# Altium schematic symbol library B9_HashBoard.SchLib: 74 symbols
Pins are listed as number, name and electrical type; pins without a type are passive.

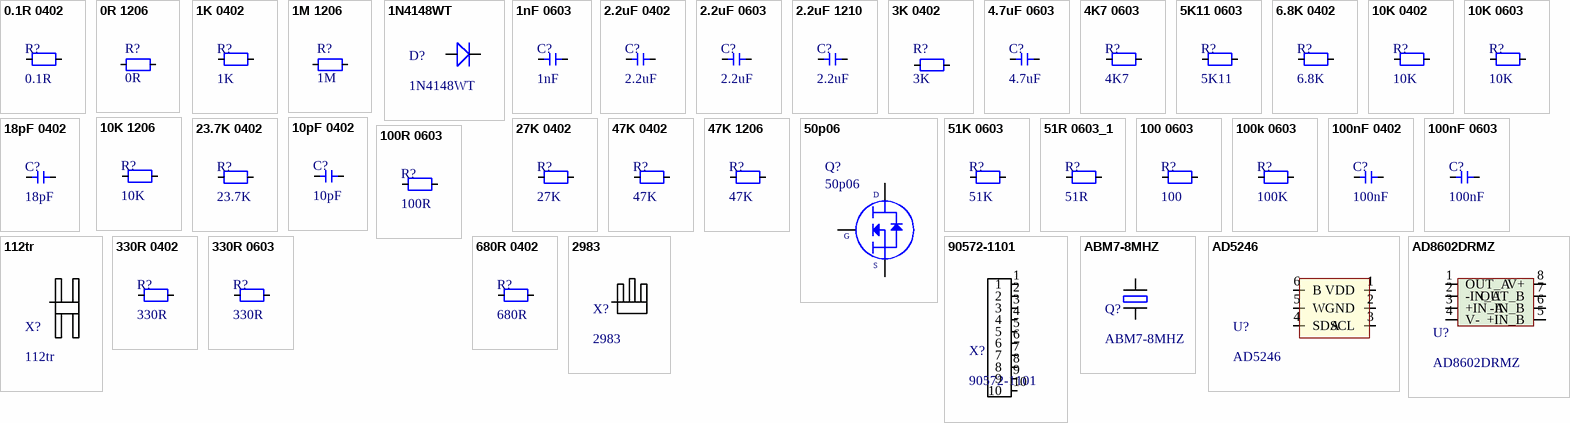
[diagram p0: symbols 0.1R 0402 to AD8602DRMZ]

## 0.1R 0402
designator R?, comment 0.1R
footprint R-0402R (resistor 0402 reflow soldering)
pins: 1, 2

## 0R 1206
designator R?, comment 0R
footprint R-0402R (resistor 0402 reflow soldering)
pins: 1, 2

## 1K 0402
designator R?, comment 1K
footprint R-0402R (resistor 0402 reflow soldering)
pins: 1, 2

## 1M 1206
designator R?, comment 1M
footprint R-0402R (resistor 0402 reflow soldering)
pins: 1, 2

## 1N4148WT
designator D?
footprint 1n4148
pins: 1, 2

## 1nF 0603
designator C?, comment 1nF
footprint C-0603W (capacitor 0603 wave soldering)
pins: 1, 2

## 2.2uF 0402
designator C?, comment 2.2uF
footprint C-0402R (Capacitor 0402 reflow soldering)
pins: 1, 2

## 2.2uF 0603
designator C?, comment 2.2uF
footprint C-0603W (capacitor 0603 wave soldering)
pins: 1, 2

## 2.2uF 1210
designator C?, comment 2.2uF
footprint R-1210R (resistor 1210 reflow soldering)
pins: 1, 2

## 3K 0402
designator R?, comment 3K
footprint R-0402R (resistor 0402 reflow soldering)
pins: 1, 2

## 4.7uF 0603
designator C?, comment 4.7uF
footprint C-0603W (capacitor 0603 wave soldering)
pins: 1, 2

## 4K7 0603
designator R?, comment 4K7
footprint R-0603W (resistor 0603 wave soldering)
pins: 1, 2

## 5K11 0603
designator R?, comment 5K11
footprint R-0603W (resistor 0603 wave soldering)
pins: 1, 2

## 6.8K 0402
designator R?, comment 6.8K
footprint R-0402R (resistor 0402 reflow soldering)
pins: 1, 2

## 10K 0402
designator R?, comment 10K
footprint R-0402R (resistor 0402 reflow soldering)
pins: 1, 2

## 10K 0603
designator R?, comment 10K
footprint R-0603W (resistor 0603 wave soldering)
pins: 1, 2

## 10K 1206
designator R?, comment 10K
footprint R-1206W (resistor 1206 wave soldering)
pins: 1, 2

## 10pF 0402
designator C?, comment 10pF
footprint C-0402R (Capacitor 0402 reflow soldering)
pins: 1, 2

## 18pF 0402
designator C?, comment 18pF
footprint C-0402R (Capacitor 0402 reflow soldering)
pins: 1, 2

## 23.7K 0402
designator R?, comment 23.7K
footprint R-0402R (resistor 0402 reflow soldering)
pins: 1, 2

## 27K 0402
designator R?, comment 27K
footprint R-0402R (resistor 0402 reflow soldering)
pins: 1, 2

## 47K 0402
designator R?, comment 47K
footprint R-0402R (resistor 0402 reflow soldering)
pins: 1, 2

## 47K 1206
designator R?, comment 47K
footprint R-1206W (resistor 1206 wave soldering)
pins: 1, 2

## 50p06
designator Q?
Manufacturer: Infineon; Manufacturer Part Number: IRF3205STRLPBF; Drain to Source Voltage (Vdss): 55V; Continuous Drain Current (ID): 110A; Rds On Max: 8mR; Input Capacitance: 3.247nF; Max Power Dissipation: 200W; Turn-Off Delay Time: 50ns; Turn-On Delay Time: 14ns; Gate to Source Voltage (Vgs): 20V; Threshold Voltage: 4V; Supplier 1: Digi-Key; RoHS: Yes; Stock 1: 3281; Pricing 1: 1 = 1,84000, 10 = 1,66600, 100 = 1,33840 (USD); Mount: Surface Mount; Case/Package: D2PAK; Number of Pins: 3; Min Operating Temperature: -55°C; Max Operating Temperature: 175°C; Packaging: Cut Tape; Power Dissipation: 200W; Drain to Source Resistance: 8mR; Drain to Source Breakdown Voltage: 55V; Length: 0.42inch; Height: 0.19inch; Width: 0.38inch; REACH SVHC: No SVHC; Lead Free: Lead Free; ComponentLink1URL: https://www.alliedelec.com/m/d/b8827ca43655240244f0cc5c2198e6b1.pdf?src-supplier=Allied+Electronics; ComponentLink1Description: https://www.alliedelec.com/m/d/b8827ca43655240244f0cc5c2198e6b1.pdf?src-supplier=Allied+Electronics; ComponentLink2URL: https://www.infineon.com/dgdl/irf3205spbf.pdf?fileId=5546d462533600a4015355defac9190c&src-supplier=Digi-Key; ComponentLink2Description: https://www.infineon.com/dgdl/irf3205spbf.pdf?fileId=5546d462533600a4015355defac9190c&src-supplier=Digi-Key; ComponentLink3URL: http://www.infineon.com/dgdl/irf3205spbf.pdf?fileId=5546d462533600a4015355defac9190c&src-supplier=Digi-Key; ComponentLink3Description: http://www.infineon.com/dgdl/irf3205spbf.pdf?fileId=5546d462533600a4015355defac9190c&src-supplier=Digi-Key; ComponentLink4URL: http://www.farnell.com/datasheets/1884183.pdf?src-supplier=Element14; ComponentLink4Description: http://www.farnell.com/datasheets/1884183.pdf?src-supplier=Element14; Supplier Part Number 1: IRF3205STRLPBFCT-ND
footprint DPAK_TO263 (D2-PAK, 3-Pads, Body 7.93x8.70mm (max), IPC Medium Density)
pins: 1, 2, 3
text: D; G; S

## 51K 0603
designator R?, comment 51K
footprint R-0603W (resistor 0603 wave soldering)
pins: 1, 2

## 51R 0603_1
designator R?, comment 51R
footprint R-0603W (resistor 0603 wave soldering)
pins: 1, 2

## 100 0603
designator R?, comment 100
footprint R-0603W (resistor 0603 wave soldering)
pins: 1, 2

## 100k 0603
designator R?, comment 100K
footprint R-0603W (resistor 0603 wave soldering)
pins: 1, 2

## 100nF 0402
designator C?, comment 100nF
footprint C-0402R (Capacitor 0402 reflow soldering)
pins: 1, 2

## 100nF 0603
designator C?, comment 100nF
footprint C-0603W (capacitor 0603 wave soldering)
pins: 1, 2

## 100R 0603
designator R?, comment 100R
footprint R-0603W (resistor 0603 wave soldering)
pins: 1, 2

## 112tr
designator X?
footprint 112tr
pins: 1

## 330R 0402
designator R?, comment 330R
footprint R-0402R (resistor 0402 reflow soldering)
pins: 1, 2

## 330R 0603
designator R?, comment 330R
footprint R-0603W (resistor 0603 wave soldering)
pins: 1, 2

## 680R 0402
designator R?, comment 680R
footprint R-0402R (resistor 0402 reflow soldering)
pins: 1, 2

## 2983
designator X?
footprint 2983
pins: 1

## 90572-1101
designator X?
footprint idc20
pins: 1, 2, 3, 4, 5, 6, 7, 8, 9, 10

## ABM7-8MHZ
designator Q?
footprint abm-8mhz
pins: 1, 2

## AD5246
designator U?
footprint ad5246
pins: 1 VDD, 2 GND, 3 SCL, 4 SDA, 5 W, 6 B

## AD8602DRMZ
designator U?
footprint ad860 (SOP, 8-Leads, Body 3x3mm, Pitch 0.65mm, IPC High Density)
pins: 1 OUT_A, 2 -IN_A, 3 +IN_A, 4 V-, 5 +IN_B, 6 -IN_B, 7 OUT_B, 8 V+

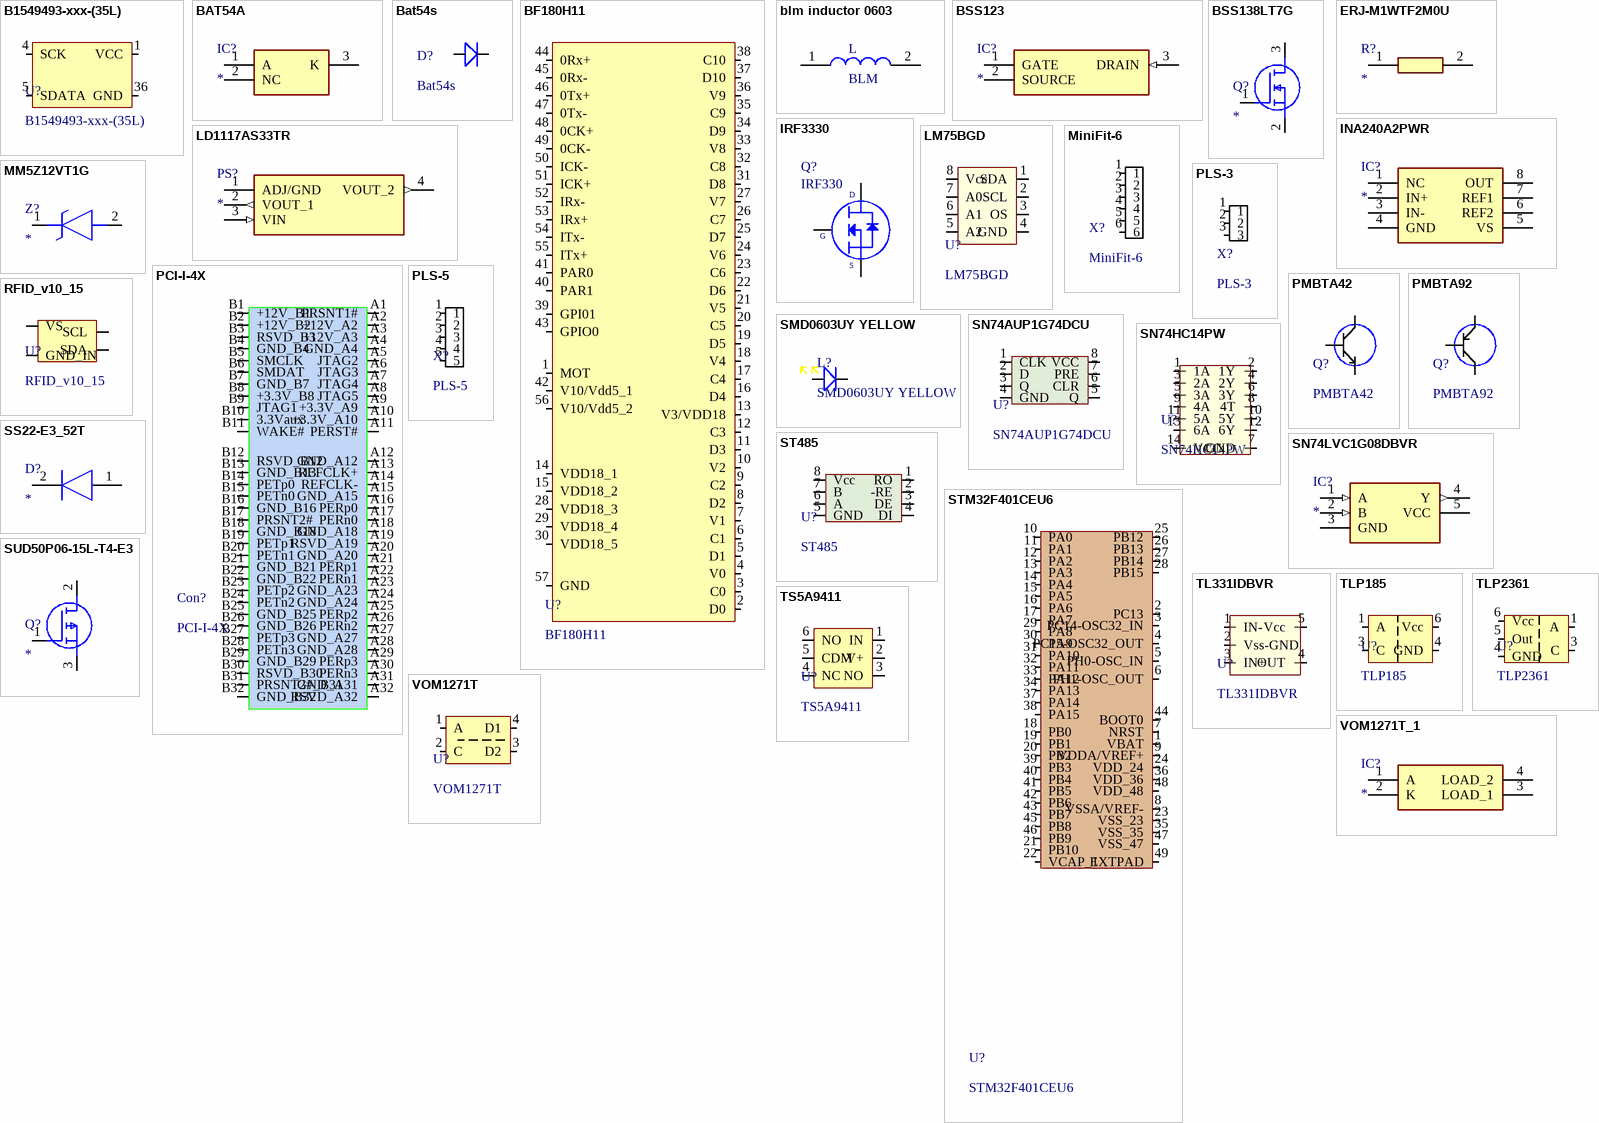
[diagram p1: symbols B1549493-xxx-(35L) to VOM1271T_1]

## B1549493-xxx-(35L)
designator U?
footprint Bıtfury_Clarke_B1549493 (PQFN, 36-Leads, Body 6,00x6,00mm, Pitch 0,50mm, Thermal Pad 3,08x3,08mm, IPC Medium Density)
pins: 1 VCC, 4 SCK, 5 SDATA, 36 GND

## BAT54A
designator IC?
Integrated Circuit; Manufacturer_Name: STMicroelectronics; Manufacturer_Part_Number: BAT54A; Datasheet Link: http://www.st.com/web/en/resource/technical/document/datasheet/CD00001322.pdf; Height: 1.5mm
footprint bat54a
pins: 1 A, 2 NC, 3 K

## Bat54s
designator D?
footprint bat54s
pins: 1, 2

## BF180H11
designator U?
footprint BF180H16 (PQFN, 56-Leads, Body 7,00x7,00mm, Pitch 0,40mm, Thermal Pad 4,58x4,58mm, IPC Medium Density)
pins: 1 MOT, 2 D0, 3 C0, 4 V0, 5 D1, 6 C1, 7 V1, 8 D2, 9 C2, 10 V2, 11 D3, 12 C3, 13 V3/VDD18, 14 VDD18_1, 15 VDD18_2, 16 D4, 17 C4, 18 V4, 19 D5, 20 C5, 21 V5, 22 D6, 23 C6, 24 V6, 25 D7, 26 C7, 27 V7, 28 VDD18_3, 29 VDD18_4, 30 VDD18_5, 31 D8, 32 C8, 33 V8, 34 D9, 35 C9, 36 V9, 37 D10, 38 C10, 39 GPI01, 40 PAR1, 41 PAR0, 42 V10/Vdd5_1, 43 GPIO0, 44 0Rx+, 45 0Rx-, 46 0Tx+, 47 0Tx-, 48 0CK+, 49 0CK-, 50 ICK-, 51 ICK+, 52 IRx-, 53 IRx+, 54 ITx-, 55 ITx+, 56 V10/Vdd5_2, 57 GND

## blm inductor 0603
designator L, comment BLM
footprint R-0603W (resistor 0603 wave soldering)
pins: 1, 2

## BSS123
designator IC?
Integrated Circuit; Manufacturer_Name: Nexperia; Manufacturer_Part_Number: BSS123; Datasheet Link: http://docs-emea.rs-online.com/webdocs/1270/0900766b81270fbb.pdf; Height: 1.1mm; Mouser Part Number: N/A; Mouser Price/Stock: https://www.mouser.com/Search/Refine.aspx?Keyword=N%2FA
footprint bss123
pins: 1 GATE, 2 SOURCE, 3 DRAIN (in)

## BSS138LT7G
designator Q?
MOSFET (N-Channel); Manufacturer_Name: ON Semiconductor; Manufacturer_Part_Number: BSS138LT7G; Datasheet Link: https://www.mouser.com/datasheet/2/308/BSS138LT1-D-1522521.pdf; Height: 1.11mm; Arrow Part Number: BSS138LT7G; Arrow Price/Stock: https://www.arrow.com/en/products/bss138lt7g/on-semiconductor; Mouser Part Number: 863-BSS138LT7G; Mouser Price/Stock: https://www.mouser.co.uk/ProductDetail/ON-Semiconductor/BSS138LT7G?qs=l7cgNqFNU1gVGpXKtqpwiw%3D%3D
footprint bss138
pins: 1 G, 2 S, 3 D

## ERJ-M1WTF2M0U
designator R?
Resistor; Manufacturer_Name: Panasonic; Manufacturer_Part_Number: ERJ-M1WTF2M0U; Datasheet Link: https://componentsearchengine.com/Datasheets/1/ERJ-M1WTF2M0U.pdf; Height: 1.1mm; Arrow Part Number: ERJ-M1WTF2M0U; Arrow Price/Stock: https://www.arrow.com/en/products/erj-m1wtf2m0u/panasonic; Mouser Part Number: 667-ERJ-M1WTF2M0U; Mouser Price/Stock: https://www.mouser.com/Search/Refine.aspx?Keyword=667-ERJ-M1WTF2M0U
footprint R-1210R (resistor 1210 reflow soldering)
pins: 1, 2

## INA240A2PWR
designator IC?
Integrated Circuit; Manufacturer_Name: Texas Instruments; Manufacturer_Part_Number: INA240A2PWR; Datasheet Link: http://www.ti.com/lit/gpn/INA240; Height: 1.2mm; Arrow Part Number: INA240A2PWR; Arrow Price/Stock: https://www.arrow.com/en/products/ina240a2pwr/texas-instruments; Mouser Part Number: 595-INA240A2PWR; Mouser Price/Stock: https://www.mouser.co.uk/ProductDetail/Texas-Instruments/INA240A2PWR?qs=aVyJF2WnouQyoKZt%2F7Ylhw%3D%3D
footprint ina240
pins: 1 NC, 2 IN+, 3 IN-, 4 GND, 5 VS, 6 REF2, 7 REF1, 8 OUT

## IRF3330
designator Q?, comment IRF330
Manufacturer: Infineon; Manufacturer Part Number: IRF3205STRLPBF; Drain to Source Voltage (Vdss): 55V; Continuous Drain Current (ID): 110A; Rds On Max: 8mR; Input Capacitance: 3.247nF; Max Power Dissipation: 200W; Turn-Off Delay Time: 50ns; Turn-On Delay Time: 14ns; Gate to Source Voltage (Vgs): 20V; Threshold Voltage: 4V; Supplier 1: Digi-Key; RoHS: Yes; Stock 1: 3281; Pricing 1: 1 = 1,84000, 10 = 1,66600, 100 = 1,33840 (USD); Mount: Surface Mount; Case/Package: D2PAK; Number of Pins: 3; Min Operating Temperature: -55°C; Max Operating Temperature: 175°C; Packaging: Cut Tape; Power Dissipation: 200W; Drain to Source Resistance: 8mR; Drain to Source Breakdown Voltage: 55V; Length: 0.42inch; Height: 0.19inch; Width: 0.38inch; REACH SVHC: No SVHC; Lead Free: Lead Free; ComponentLink1URL: https://www.alliedelec.com/m/d/b8827ca43655240244f0cc5c2198e6b1.pdf?src-supplier=Allied+Electronics; ComponentLink1Description: https://www.alliedelec.com/m/d/b8827ca43655240244f0cc5c2198e6b1.pdf?src-supplier=Allied+Electronics; ComponentLink2URL: https://www.infineon.com/dgdl/irf3205spbf.pdf?fileId=5546d462533600a4015355defac9190c&src-supplier=Digi-Key; ComponentLink2Description: https://www.infineon.com/dgdl/irf3205spbf.pdf?fileId=5546d462533600a4015355defac9190c&src-supplier=Digi-Key; ComponentLink3URL: http://www.infineon.com/dgdl/irf3205spbf.pdf?fileId=5546d462533600a4015355defac9190c&src-supplier=Digi-Key; ComponentLink3Description: http://www.infineon.com/dgdl/irf3205spbf.pdf?fileId=5546d462533600a4015355defac9190c&src-supplier=Digi-Key; ComponentLink4URL: http://www.farnell.com/datasheets/1884183.pdf?src-supplier=Element14; ComponentLink4Description: http://www.farnell.com/datasheets/1884183.pdf?src-supplier=Element14; Supplier Part Number 1: IRF3205STRLPBFCT-ND
footprint DPAK_TO263 (D2-PAK, 3-Pads, Body 7.93x8.70mm (max), IPC Medium Density)
pins: 1, 2, 3
text: D; G; S

## LD1117AS33TR
designator PS?
Power Supply; Manufacturer_Name: STMicroelectronics; Manufacturer_Part_Number: LD1117AS33TR; Datasheet Link: https://4donline.ihs.com/images/VipMasterIC/IC/SGST/SGSTS49356/SGSTS49356-1.pdf?hkey=6D3A4C79FDBF58556ACFDE234799DDF0; Height: 1.9mm; Arrow Part Number: LD1117AS33TR; Arrow Price/Stock: https://www.arrow.com/en/products/ld1117as33tr/stmicroelectronics; Mouser Part Number: 511-LD1117AS33; Mouser Price/Stock: https://www.mouser.co.uk/ProductDetail/STMicroelectronics/LD1117AS33TR?qs=C3bf%2FVrkE5CoDDd7wyn%252BaQ%3D%3D
footprint ld1117a
pins: 1 ADJ/GND (power), 2 VOUT_1 (out), 3 VIN (in), 4 VOUT_2 (out)

## LM75BGD
designator U?
footprint lm75 (PSON, 8-Leads, Body 2.1x3.1mm, Pitch 0.5mm, IPC High Density)
pins: 1 SDA, 2 SCL, 3 OS, 4 GND, 5 A2, 6 A1, 7 A0, 8 Vcc

## MiniFit-6
designator X?
footprint MiniFit 6
pins: 1, 2, 3, 4, 5, 6

## MM5Z12VT1G
designator Z?
Zener Diode; Manufacturer_Name: ON Semiconductor; Manufacturer_Part_Number: MM5Z12VT1G; Datasheet Link: http://www.onsemi.com/pub/Collateral/MM5Z2V4T1-D.PDF; Height: 0.7mm; Arrow Part Number: MM5Z12VT1G; Arrow Price/Stock: https://www.arrow.com/en/products/mm5z12vt1g/on-semiconductor; Mouser Part Number: 863-MM5Z12VT1G; Mouser Price/Stock: https://www.mouser.co.uk/ProductDetail/ON-Semiconductor/MM5Z12VT1G?qs=HVbQlW5zcXXd129ZNePICQ%3D%3D
footprint mm5z
pins: 1 K, 2 A

## PCI-I-4X
designator Con?
footprint SAMTEC_PCIE-064-02-X-D-EMS2
pins: A1 PRSNT1#, A2 +12V_A2, A3 +12V_A3, A4 GND_A4, A5 JTAG2, A6 JTAG3, A7 JTAG4, A8 JTAG5, A9 +3.3V_A9, A10 +3.3V_A10, A11 PERST#, A12 GND_A12, A13 REFCLK+, A14 REFCLK-, A15 GND_A15, A16 PERp0, A17 PERn0, A18 GND_A18, A19 RSVD_A19, A20 GND_A20, A21 PERp1, A22 PERn1, A23 GND_A23, A24 GND_A24, A25 PERp2, A26 PERn2, A27 GND_A27, A28 GND_A28, A29 PERp3, A30 PERn3, A31 GND_A31, A32 RSVD_A32, B1 +12V_B1, B2 +12V_B2, B3 RSVD_B3, B4 GND_B4, B5 SMCLK, B6 SMDAT, B7 GND_B7, B8 +3.3V_B8, B9 JTAG1, B10 3.3Vaux, B11 WAKE#, B12 RSVD_B12, B13 GND_B13, B14 PETp0, B15 PETn0, B16 GND_B16, B17 PRSNT2#, B18 GND_B18, B19 PETp1, B20 PETn1, B21 GND_B21, B22 GND_B22, B23 PETp2, B24 PETn2, B25 GND_B25, B26 GND_B26, B27 PETp3, B28 PETn3, B29 GND_B29, B30 RSVD_B30, B31 PRSNT2#_B31, B32 GND_B32

## PLS-3
designator X?
footprint 3pinCon
pins: 1, 2, 3

## PLS-5
designator X?
footprint 5pinCon
pins: 1, 2, 3, 4, 5

## PMBTA42
designator Q?
footprint pmbta42
pins: 1, 2, 3

## PMBTA92
designator Q?
footprint pmbta92
pins: 1, 2, 3

## RFID_v10_15
designator U?
pins: 1 VS, 2 GND_IN, 3 SDA, 4 SCL

## SMD0603UY YELLOW
designator L?
footprint R-0603W (resistor 0603 wave soldering)
pins: 1, 2

## SN74AUP1G74DCU
designator U?
footprint sn74aup
pins: 1 CLK, 2 D, 3 Q, 4 GND, 5 Q, 6 CLR, 7 PRE, 8 VCC

## SN74HC14PW
designator U?
footprint sn74hcpw
pins: 1 1A, 2 1Y, 3 2A, 4 2Y, 5 3A, 6 3Y, 7 GND, 8 4T, 9 4A, 10 5Y, 11 5A, 12 6Y, 13 6A, 14 VCC

## SN74LVC1G08DBVR
designator IC?
Integrated Circuit; Manufacturer_Name: Texas Instruments; Manufacturer_Part_Number: SN74LVC1G08DBVR; Datasheet Link: http://www.ti.com/lit/ds/symlink/sn74lvc1g08.pdf; Height: 1.45mm; Arrow Part Number: SN74LVC1G08DBVR; Arrow Price/Stock: https://www.arrow.com/en/products/sn74lvc1g08dbvr/texas-instruments; Mouser Part Number: 595-SN74LVC1G08DBVR; Mouser Price/Stock: https://www.mouser.co.uk/ProductDetail/Texas-Instruments/SN74LVC1G08DBVR?qs=8yeEWhuAOtNjtL049wSCoQ%3D%3D
footprint sn74lvc
pins: 1 A (in), 2 B (in), 3 GND (power), 4 Y (out), 5 VCC (power)

## SS22-E3_52T
designator D?
Diode; Manufacturer_Name: Vishay; Manufacturer_Part_Number: SS22-E3/52T; Datasheet Link: https://componentsearchengine.com/Datasheets/2/SS22-E3_52T.pdf; Height: 2.44mm; Arrow Part Number: SS22-E3/52T; Arrow Price/Stock: https://www.arrow.com/en/products/ss22-e352t/vishay; Mouser Part Number: 625-SS22-E3; Mouser Price/Stock: https://www.mouser.com/Search/Refine.aspx?Keyword=625-SS22-E3
footprint ss22
pins: 1 A, 2 K

## ST485
designator U?
footprint st485
pins: 1 RO, 2 -RE, 3 DE, 4 DI, 5 GND, 6 A, 7 B, 8 Vcc

## STM32F401CEU6
designator U?
footprint stm32f401ceu6
pins: 1 VBAT, 2 PC13, 3 PC14-OSC32_IN, 4 PC15-OSC32_OUT, 5 PH0-OSC_IN, 6 PH1-OSC_OUT, 7 NRST, 8 VSSA/VREF-, 9 VDDA/VREF+, 10 PA0, 11 PA1, 12 PA2, 13 PA3, 14 PA4, 15 PA5, 16 PA6, 17 PA7, 18 PB0, 19 PB1, 20 PB2, 21 PB10, 22 VCAP_1, 23 VSS_23, 24 VDD_24, 25 PB12, 26 PB13, 27 PB14, 28 PB15, 29 PA8, 30 PA9, 31 PA10, 32 PA11, 33 PA12, 34 PA13, 35 VSS_35, 36 VDD_36, 37 PA14, 38 PA15, 39 PB3, 40 PB4, 41 PB5, 42 PB6, 43 PB7, 44 BOOT0, 45 PB8, 46 PB9, 47 VSS_47, 48 VDD_48, 49 EXTPAD

## SUD50P06-15L-T4-E3
designator Q?
MOSFET (P-Channel); Manufacturer_Name: Vishay; Manufacturer_Part_Number: SUD50P06-15L-T4-E3; Datasheet Link: https://www.mouser.de/datasheet/2/427/sud50p06-15-1764865.pdf; Height: 2.39mm; Arrow Part Number: SUD50P06-15L-T4-E3; Arrow Price/Stock: https://www.arrow.com/en/products/sud50p06-15l-t4-e3/vishay; Mouser Part Number: 78-SUD50P06-15L-T4E3; Mouser Price/Stock: https://www.mouser.co.uk/ProductDetail/Vishay-Semiconductors/SUD50P06-15L-T4-E3?qs=G1LhLIAbs1yBu1wo3pIVcA%3D%3D
footprint SUD50P0615LT4E3
pins: 1 G, 2 D, 3 S

## TL331IDBVR
designator U?
footprint tl331
pins: 1 IN-, 2 Vss-GND, 3 IN+, 4 OUT, 5 Vcc

## TLP185
designator U?
footprint tlp185
pins: 1 A, 3 C, 4 GND, 6 Vcc

## TLP2361
designator U?
footprint tlp2361
pins: 1 A, 3 C, 4 GND, 5 Out, 6 Vcc

## TS5A9411
designator U?
footprint ts5a9411
pins: 1 IN, 2 V+, 3 NO, 4 NC, 5 CDM, 6 NO

## VOM1271T
designator U?
footprint vom12
pins: 1 A, 2 C, 3 D2, 4 D1

## VOM1271T_1
designator IC?
Integrated Circuit; Manufacturer_Name: Vishay; Manufacturer_Part_Number: VOM1271T; Datasheet Link: http://www.mouser.com/ds/2/427/vom1271t-244790.pdf; Height: 2.32mm; Arrow Part Number: VOM1271T; Arrow Price/Stock: https://www.arrow.com/en/products/vom1271t/vishay; Mouser Part Number: 78-VOM1271T; Mouser Price/Stock: https://www.mouser.co.uk/ProductDetail/Vishay-Semiconductors/VOM1271T?qs=9vrc9xEJKyxSd3E39M%252BFqQ%3D%3D
footprint vom12
pins: 1 A, 2 K, 3 LOAD_1, 4 LOAD_2